# Altium schematic symbol library MAX3221.SchLib: 1 symbol
Pins are listed as number, name and electrical type; pins without a type are passive.

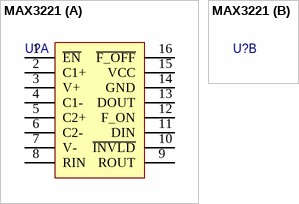
[diagram p0: symbol MAX3221]

## MAX3221
designator U?  (value not drawn)
part A pins: 1 ~{EN}, 2 C1+, 3 V+, 4 C1-, 5 C2+, 6 C2-, 7 V-, 8 RIN, 9 ROUT, 10 ~{INVLD}, 11 DIN, 12 F_ON, 13 DOUT, 14 GND, 15 VCC, 16 ~{F_OFF}
1 alternate drawing of the same symbol